# Altium footprint library LCENA2520MKT2R2M0NK.PcbLib: 3 footprints
Each footprint in its own frame and in the unit in brackets; x right, y up, seen from the top. Pads: shape width x height; smd on the part's side, far side on the other; paste and mask are expansions set on the pad; w line width, h text height; cw(c..) or ccw(c..) is an arc to the next point about the centre after c.
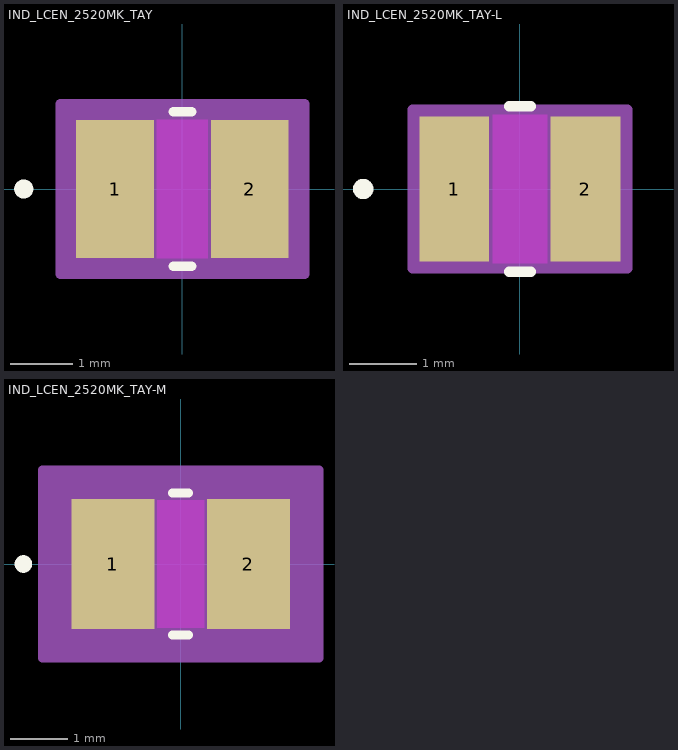
[diagram p0: the footprints below, top view; thin cyan lines are the x and y axes]

## IND_LCEN_2520MK_TAY [mil]
pads (2):
  rect 48.78x87 smd paste+0 mask+0: 1(-42.39,0) 2(42.39,0)
Top Layer keep-out:
  region: -16,-41.5 -16,41.5 16,41.5 16,-41.5
Top Overlay:
  circle w6: c-99.78,0 r3
  lines w6: -5.89,-48.5 5.89,-48.5 ; -5.89,48.5 5.89,48.5
  text ".Designator" at -137.5,-25 h50
Keep-Out Layer:
  region: -16,-43.5 -16,43.5 16,43.5 16,-43.5
Mechanical 13:
  circle w1: c-37.39,0 r3
  lines w1: -53,-43.5 -53,43.5 ; -53,-43.5 -18,-43.5 -18,43.5 -53,43.5 ; -53,-43.5 53,-43.5 ; -53,-43.5 -53,43.5 ; -53,43.5 53,43.5 ; 53,-43.5 18,-43.5 18,43.5 53,43.5 ; 53,-43.5 53,43.5 ; 53,-43.5 53,43.5
  text ".Designator" at -137.5,-25 h50
Mechanical 15:
  region: 76.78,-53.5 -76.78,-53.5 -76.78,53.5 76.78,53.5
  lines w6: -76.78,-53.5 -76.78,53.5 76.78,53.5 76.78,-53.5 -76.78,-53.5
3D body "IND_LCEN_2520MK_TAY.step": height 47.01, standoff 0, extent -52.99,-43.5 52.99,43.5

## IND_LCEN_2520MK_TAY-L [mil]
pads (2):
  rect 40.91x85.03 smd paste+0 mask+0: 1(-38.45,0) 2(38.45,0)
Top Layer keep-out:
  region: -16,-41.5 -16,41.5 16,41.5 16,-41.5
Top Overlay:
  circle w6: c-91.91,0 r3
  lines w6: -6.35,-48.5 6.35,-48.5 ; -6.35,48.5 6.35,48.5
  text ".Designator" at -137.5,-25 h50
Keep-Out Layer:
  region: -16,-43.5 -16,43.5 16,43.5 16,-43.5
Mechanical 13:
  circle w1: c-33.45,0 r3
  lines w1: -53,-43.5 -53,43.5 ; -53,-43.5 -18,-43.5 -18,43.5 -53,43.5 ; -53,-43.5 53,-43.5 ; -53,-43.5 -53,43.5 ; -53,43.5 53,43.5 ; 53,-43.5 18,-43.5 18,43.5 53,43.5 ; 53,-43.5 53,43.5 ; 53,-43.5 53,43.5
  text ".Designator" at -137.5,-25 h50
Mechanical 15:
  region: 62.91,-46.52 -62.91,-46.52 -62.91,46.52 62.91,46.52
  lines w6: -62.91,-46.52 -62.91,46.52 62.91,46.52 62.91,-46.52 -62.91,-46.52
3D body "IND_LCEN_2520MK_TAY.step": height 47.01, standoff 0, extent -52.99,-43.5 52.99,43.5

## IND_LCEN_2520MK_TAY-M [mil]
pads (2):
  rect 56.65x88.97 smd paste+0 mask+0: 1(-46.33,0) 2(46.33,0)
Top Layer keep-out:
  region: -16,-41.5 -16,41.5 16,41.5 16,-41.5
Top Overlay:
  circle w6: c-107.65,0 r3
  lines w6: -5.53,-48.5 5.53,-48.5 ; -5.53,48.5 5.53,48.5
  text ".Designator" at -137.5,-25 h50
Keep-Out Layer:
  region: -16,-43.5 -16,43.5 16,43.5 16,-43.5
Mechanical 13:
  circle w1: c-41.33,0 r3
  lines w1: -53,-43.5 -53,43.5 ; -53,-43.5 -18,-43.5 -18,43.5 -53,43.5 ; -53,-43.5 53,-43.5 ; -53,-43.5 -53,43.5 ; -53,43.5 53,43.5 ; 53,-43.5 18,-43.5 18,43.5 53,43.5 ; 53,-43.5 53,43.5 ; 53,-43.5 53,43.5
  text ".Designator" at -137.5,-25 h50
Mechanical 15:
  region: 94.65,-64.48 -94.65,-64.48 -94.65,64.48 94.65,64.48
  lines w6: -94.65,-64.48 -94.65,64.48 94.65,64.48 94.65,-64.48 -94.65,-64.48
3D body "IND_LCEN_2520MK_TAY.step": height 47.01, standoff 0, extent -52.99,-43.5 52.99,43.5